# EAGLE library part TXS0101DCKR (library TXS0101DCKR)
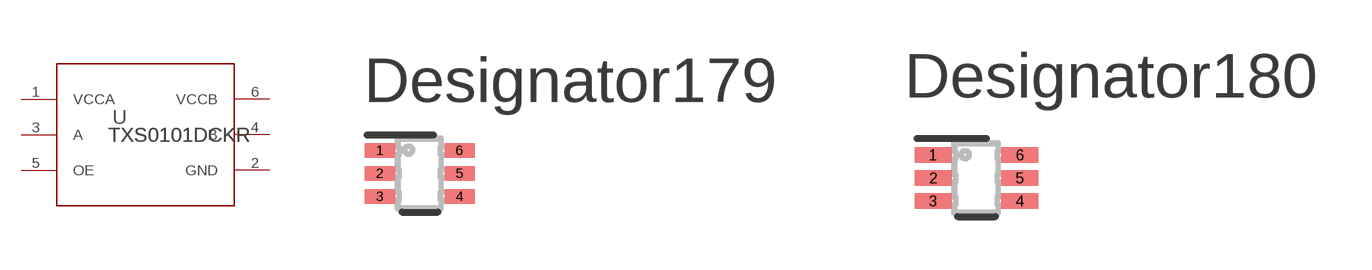
[diagram p0: symbol with the pads of DCK0006A_N; footprints DCK0006A_N, DCK0006A_M]

Designator prefix U

## TXS0101DCKR  [DCK0006A_N]
1  VCCA  pwr
2  GND  pwr
3  A
4  B
5  OE  in
6  VCCB  pwr

## TXS0101DCKRDCK0006A_M  [DCK0006A_M]
Pads as for DCK0006A_N

## TXS0101DCKRDCK0006A_L  [DCK0006A_L]
Pads as for DCK0006A_N

## Footprint DCK0006A_N (pad centres in mm)
smd 0.85 x 0.4: 1 -1.125,0.65; 2 -1.125,0; 3 -1.125,-0.65; 4 1.125,-0.65; 5 1.125,0; 6 1.125,0.65

## Footprint DCK0006A_M (pad centres in mm)
smd 1.05 x 0.45: 1 -1.225,0.65; 2 -1.225,0; 3 -1.225,-0.65; 4 1.225,-0.65; 5 1.225,0; 6 1.225,0.65

## Footprint DCK0006A_L (pad centres in mm)
smd 0.65 x 0.4: 1 -1.025,0.65; 2 -1.025,0; 3 -1.025,-0.65; 4 1.025,-0.65; 5 1.025,0; 6 1.025,0.65